# Altium footprint library 6PINHEADER (1).PcbLib: 1 footprints
Each footprint in its own frame and in the unit in brackets; x right, y up, seen from the top. Pads: shape width x height; smd on the part's side, far side on the other; paste and mask are expansions set on the pad; w line width, h text height; cw(c..) or ccw(c..) is an arc to the next point about the centre after c.
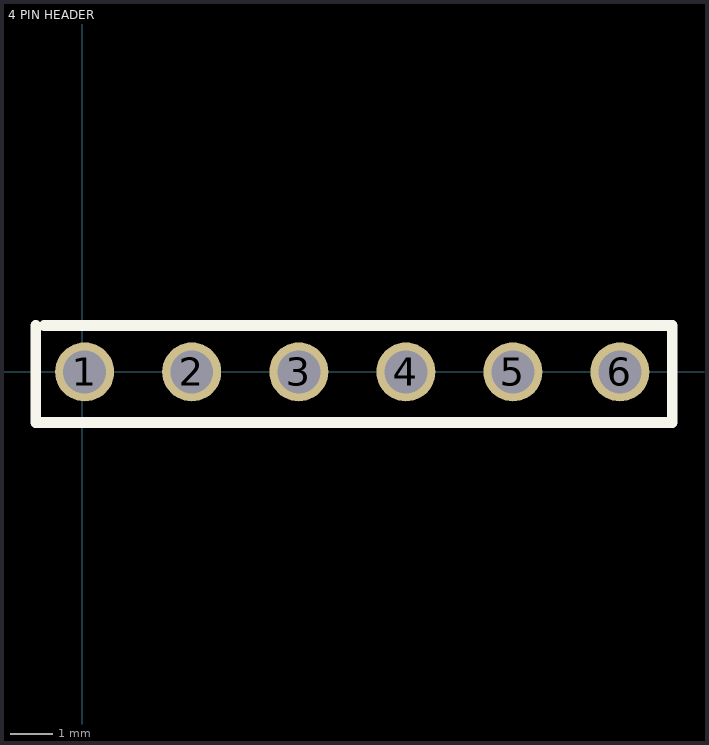
[diagram p0: the footprint, top view; thin cyan lines are the x and y axes]

## 4 PIN HEADER [mm] "4 PIN HEADER"
pads (6):
  round 1.4 hole 1.02: 1(0.06,0) 2(2.6,0) 3(5.14,0) 4(7.68,0) 5(10.22,0) 6(12.76,0)
Top Overlay:
  lines w0.254: -1.1,1.1 -1.1,-1.2 14,-1.2 14,1.1 -0.9,1.1